# EAGLE library part FST3253_ON_ADAPTER (library mylib)
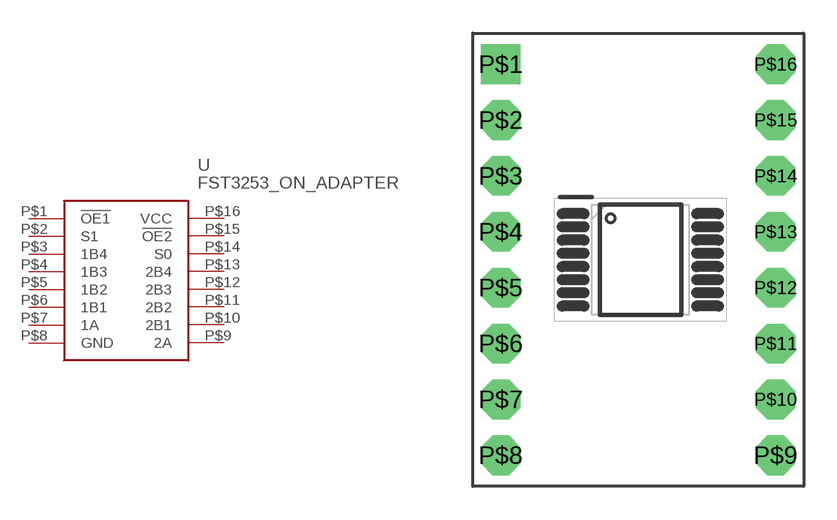
[diagram p0: symbol with the pads of SSOP16_ADAPTER; footprint SSOP16_ADAPTER]

Designator prefix -

## FST3253_ON_ADAPTER  [SSOP16_ADAPTER]
P$1  !OE1
P$2  S1
P$3  1B4
P$4  1B3
P$5  1B2
P$6  1B1
P$7  1A
P$8  GND  pwr
P$9  2A
P$10  2B1
P$11  2B2
P$12  2B3
P$13  2B4
P$14  S0
P$15  !OE2
P$16  VCC  pwr

## Footprint SSOP16_ADAPTER (pad centres in mm)
MTC16 (MO-153)
drill 0.8 pad 1.8 square: P$1 0,0
drill 0.8 pad 1.8 octagon: P$2 0,-2.54; P$3 0,-5.08; P$4 0,-7.62; P$5 0,-10.16; P$6 0,-12.7; P$7 0,-15.24; P$8 0,-17.78; P$9 12.5,-17.78; P$10 12.5,-15.24; P$11 12.5,-12.7; P$12 12.5,-10.16; P$13 12.5,-7.62; P$14 12.5,-5.08; P$15 12.5,-2.54; P$16 12.5,0